# EAGLE library part LTC3601 (library Strutz Electronic Industries)
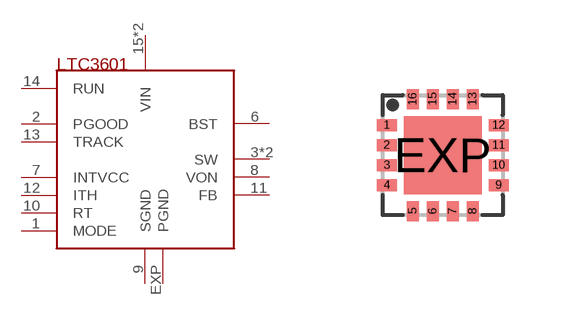
[diagram p38: symbol with the pads of QFN16-3X3; footprint QFN16-3X3]

Designator prefix -

## LTC3601  [QFN16-3X3]
1  MODE
2  PGOOD
3  SW
4  SW
6  BST
7  INTVCC
8  VON
9  SGND
10  RT
11  FB
12  ITH
13  TRACK
14  RUN
15  VIN
16  VIN
EXP  PGND

## Footprint QFN16-3X3 (pad centres in mm)
smd 0.5 x 0.3: 1 -1.4,0.75; 2 -1.4,0.25; 3 -1.4,-0.25; 4 -1.4,-0.75; 9 1.4,-0.75; 10 1.4,-0.25; 11 1.4,0.25; 12 1.4,0.75
smd 0.3 x 0.5: 5 -0.75,-1.4; 6 -0.25,-1.4; 7 0.25,-1.4; 8 0.75,-1.4; 13 0.75,1.4; 14 0.25,1.4; 15 -0.25,1.4; 16 -0.75,1.4
smd 1.95 x 1.95: EXP 0,0